# Altium footprint library Booster_Board.PcbLib: 55 footprints (part 1 of 4)
Each footprint in its own frame and in the unit in brackets; x right, y up, seen from the top. Pads: shape width x height; smd on the part's side, far side on the other; paste and mask are expansions set on the pad; w line width, h text height; cw(c..) or ccw(c..) is an arc to the next point about the centre after c.
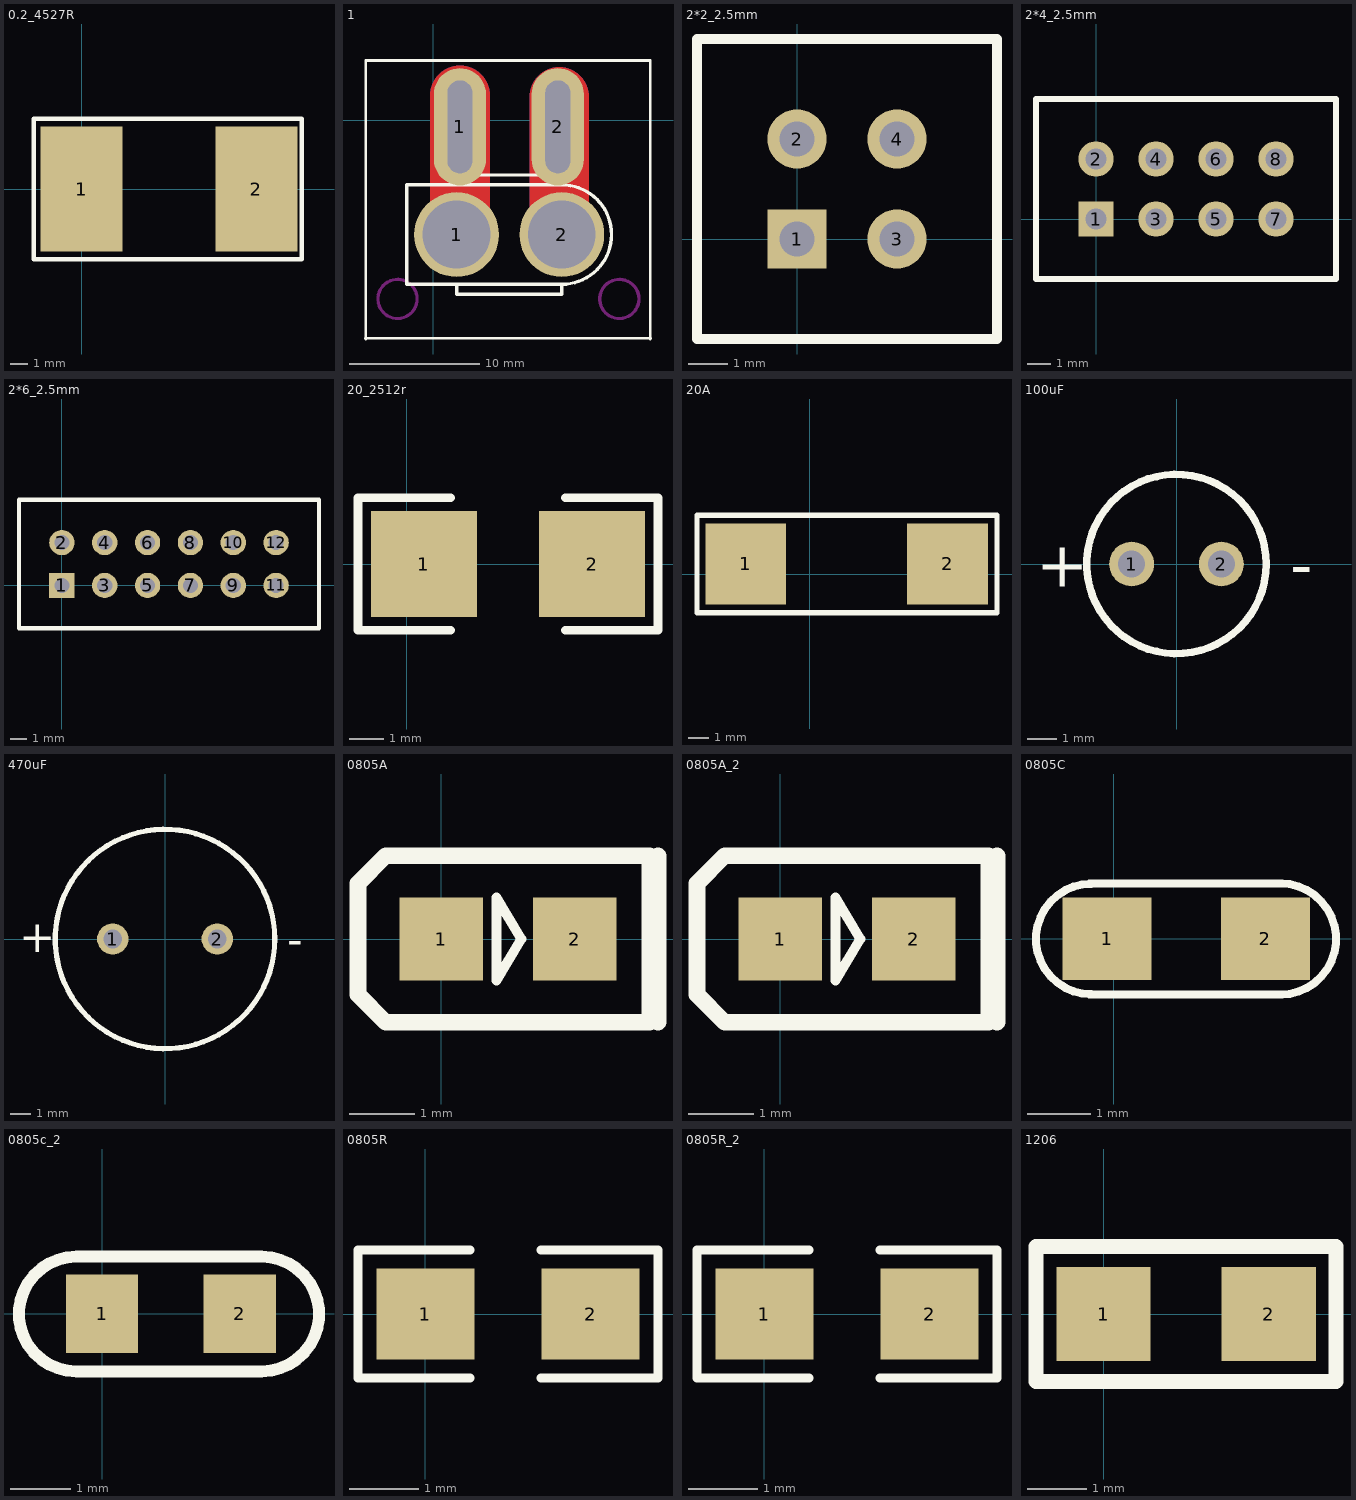
[diagram p0: the footprints below, top view; thin cyan lines are the x and y axes]

## 0.2_4527R [mm]
pads (2):
  rect 4.74x7.25 smd: 1(0,0) 2(10.1,0)
Top Overlay:
  lines w0.254: -2.772,-4.064 12.722,-4.064 12.722,4.064 -2.772,4.064 -2.772,-4.064

## 1 [mm]
pads (4):
  round 6.5 hole 5.2: 1(1.778,-8.763) 2(9.838,-8.763)
  oval 4x9 hole 1.9 slot 7.1 at 90 deg: 1(2.032,-0.508) 2(9.532,-0.508)
Top Layer:
  lines w4.572: 2.032,-8.509 2.032,1.905 ; 9.652,-8.636 9.652,1.778
Bottom Layer:
  lines w4.572: 2.032,-8.509 2.032,1.905 ; 9.652,-8.382 9.652,1.778
Top Overlay:
  lines w0.2: -5.207,-16.716 16.637,-16.716 ; -5.194,-16.764 -5.194,4.572 ; -5.08,4.572 16.606,4.572 16.606,-16.764
  lines w0.254: 1.778,-12.573 1.778,-13.335 9.838,-13.335 9.838,-12.573 ; 1.778,-4.953 1.778,-4.191 9.838,-4.191 9.838,-4.953 ; 9.838,-12.573 ccw(c9.838,-8.763) 9.838,-4.953 ; 9.838,-12.573 -2.032,-12.573 -2.032,-4.953 9.838,-4.953
Keep-Out Layer:
  circle w0.25: c-2.75,-13.694 r1.5
  circle w0.25: c14.25,-13.694 r1.5

## 2*2_2.5mm [mm]
pads (4):
  rect 1.5x1.5 hole 0.9: 1(0,0)
  round 1.5 hole 0.9: 2(0,2.54) 3(2.54,0) 4(2.54,2.54)
Top Overlay:
  lines w0.254: -2.54,-2.54 5.08,-2.54 5.08,5.08 -2.54,5.08 -2.54,-2.54

## 2*4_2.5mm [mm]
pads (8):
  rect 1.5x1.5 hole 0.9: 1(0,0)
  round 1.5 hole 0.9: 2(0,2.54) 3(2.54,0) 4(2.54,2.54) 5(5.08,0) 6(5.08,2.54) 7(7.62,0) 8(7.62,2.54)
Top Overlay:
  lines w0.254: -2.54,-2.54 -2.54,5.08 10.16,5.08 10.16,-2.54 -2.54,-2.54

## 2*6_2.5mm [mm] "16V 12V 5V 3.3V"
pads (12):
  rect 1.5x1.5 hole 0.9: 1(0,0)
  round 1.5 hole 0.9: 2(0,2.54) 3(2.54,0) 4(2.54,2.54) 5(5.08,0) 6(5.08,2.54) 7(7.62,0) 8(7.62,2.54) 9(10.16,0) 10(10.16,2.54) 11(12.7,0) 12(12.7,2.54)
Top Overlay:
  lines w0.254: -2.54,-2.54 -2.54,5.08 15.24,5.08 15.24,-2.54 -2.54,-2.54

## 20_2512r [mil] "Chip Resistor; Body 6.3 x 3.2 mm (LxW typ)"
height 23.62
pads (2):
  rect 120x120 smd: 1(19.68,0) 2(210.31,0)
Top Overlay:
  lines w10: 50,-75 -55,-75 -55,75 50,75 ; 180,-75 285,-75 285,75 180,75

## 20A [mm]
pads (2):
  rect 4x4 smd: 1(-3.175,0.508) 2(6.825,0.508)
Top Overlay:
  lines w0.254: -5.588,-1.905 -5.588,2.921 9.271,2.921 9.271,-1.905 -5.588,-1.905

## 100uF [mm] "6*12"
pads (2):
  round 1.5 hole 0.9: 1(-1.5,0) 2(1.5,0)
Top Overlay:
  circle w0.25: c0,0 r3
  text "-" at 3.81,-0.762 h1.52
  text "+" at -4.699,-0.762 h1.52

## 470uF [mm] "Capacitor (Radial); 2 Leads"
pads (2):
  round 1.5 hole 0.9: 1(-2.5,0) 2(2.5,0)
Top Overlay:
  circle w0.25: c0,0 r5.25
  text "-" at 5.842,-0.762 h1.52
  text "+" at -6.985,-0.635 h1.52

## 0805A [mil]
pads (2):
  rect 50x50 smd: 1(0,0) 2(80,0)
Top Overlay:
  lines w5.91: 33,-25 33,25 48,0 33,-25
  lines w10: 130,-50 130,0 130,50 ; -50,-33.33 -50,33.33 -33.33,50 125,50 125,-50 -33.33,-50 -50,-33.33

## 0805A_2 [mil]
pads (2):
  rect 50x50 smd: 1(0,0) 2(80,0)
Top Overlay:
  lines w5.91: 33,-25 33,25 48,0 33,-25
  lines w10: 130,-50 130,0 130,50 ; -50,-33.33 -50,33.33 -33.33,50 125,50 125,-50 -33.33,-50 -50,-33.33

## 0805C [mm]
pads (2):
  rect 1.4x1.3 smd: 1(-0.102,0) 2(2.388,0)
Top Overlay:
  lines w0.127: -0.377,-0.876 2.647,-0.876 ; -0.377,0.871 2.647,0.871 ; -0.351,-0.87 cw(c-0.351,-0.003) -0.351,0.865 ; 2.622,-0.876 ccw(c2.622,-0.003) 2.622,0.871

## 0805c_2 [mm]
pads (2):
  rect 1.2x1.3 smd: 1(0,0) 2(2.286,0)
Top Overlay:
  lines w0.2: -0.428,-0.953 cw(c-0.428,-0.003) -0.428,0.947 2.647,0.947 cw(c2.647,-0.003) 2.647,-0.953 -0.428,-0.953

## 0805R [mm]
height 0.051
pads (2):
  rect 1.4x1.3 smd: 1(0,0) 2(2.362,0)
Top Overlay:
  lines w0.127: 0.635,-0.914 -0.965,-0.914 -0.965,0.914 0.635,0.914 ; 1.651,-0.914 3.327,-0.914 3.327,0.914 1.651,0.914

## 0805R_2 [mm]
pads (2):
  rect 1.4x1.3 smd: 1(0,0) 2(2.362,0)
Top Overlay:
  lines w0.127: 0.635,-0.914 -0.965,-0.914 -0.965,0.914 0.635,0.914 ; 1.651,-0.914 3.327,-0.914 3.327,0.914 1.651,0.914

## 1206 [mm]
height 1.8
pads (2):
  rect 1.6x1.6 smd: 1(0,0) 2(2.8,0)
Top Overlay:
  lines w0.254: -1.143,-1.143 -1.143,1.143 3.937,1.143 3.937,-1.143 -1.143,-1.143